# Altium integrated library C1210X474KARACAUTO.IntLib: 1 symbol
Pins are listed as number, name and electrical type; pins without a type are passive.

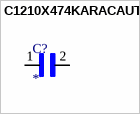
[diagram p0: symbol C1210X474KARACAUTO]

## C1210X474KARACAUTO
designator C?
MP: C1210X474KARACAUTO; Package: None; Price: None; Value: *; Availability: Unavailable
footprint CAPC3326X280N
pins: 1, 2